# EAGLE library part LT3650-4.2 (library PowerProducts)
LT-Spice library generated with : ltspice.ulp from: D:/Program Files (x86)/LTC/LTspiceIV/lib/sym/PowerProducts/LT3652*.asy at 07.10.2012 16:23:18
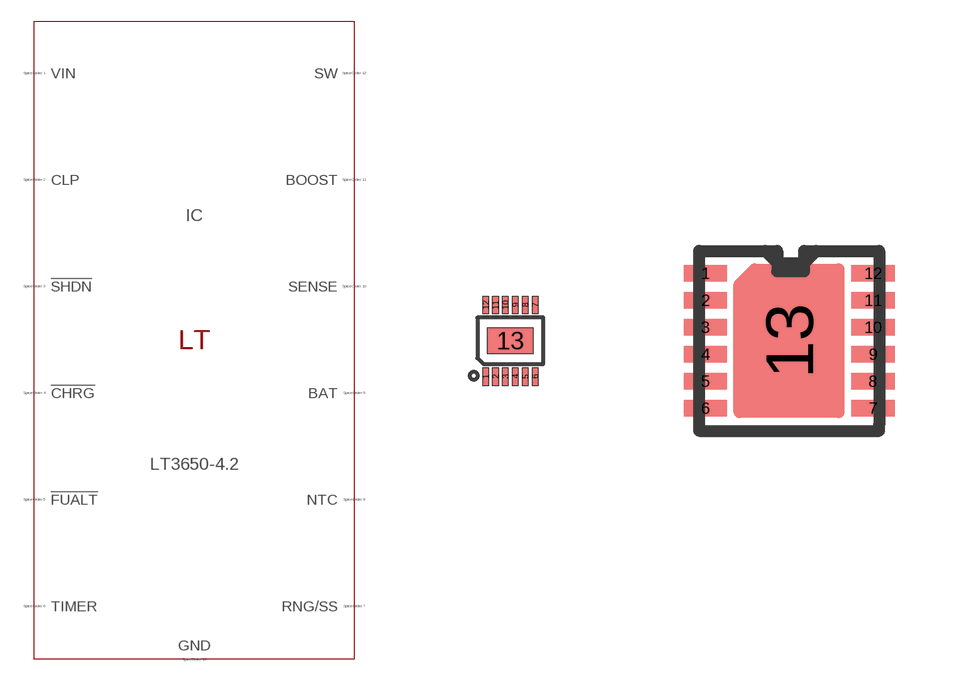
[diagram p82: symbol with the pads of MSOP12(MSE); footprints MSOP12(MSE), DFN12(DD)]

Designator prefix IC

## LT3650-4.2MSE (SPICEMODEL: LT3650-4.2.sub; SPICEPREFIX: X; VALUE2: LT3650-4.2)  [MSOP12(MSE)]
1  VIN  pas
2  CLP  pas
3  !SHDN  pas
4  !CHRG  pas
5  !FUALT  pas
6  TIMER  pas
7  RNG/SS  pas
8  NTC  pas
9  BAT  pas
10  SENSE  pas
11  BOOST  pas
12  SW  pas
13  GND  pas

## LT3650-4.2 (SPICEMODEL: LT3650-4.2.sub; SPICEPREFIX: X; VALUE2: LT3650-4.2)  [DFN12(DD)]
Pads as for MSOP12(MSE)

## Footprint MSOP12(MSE) (pad centres in mm)
Package generated from: MSOP12(MSE).asc (!PADS-POWERPCB-V9.3-BASIC! DESIGN DATABASE ASCII FILE 1.0) with :import-pads-powerpcb-v5.ulp Version 1.0.1 at 04.10.2012 14:11:19
smd 0.165 x 0.435: 1 -0.619,-0.895; 2 -0.372,-0.895; 3 -0.124,-0.895; 4 0.124,-0.895; 5 0.372,-0.895; 6 0.619,-0.895; 7 0.619,0.895; 8 0.372,0.895; 9 0.124,0.895; 10 -0.124,0.895; 11 -0.372,0.895; 12 -0.619,0.895
smd 1.161 x 0.629: 13 0,0

## Footprint DFN12(DD) (pad centres in mm)
Package generated from: DFN12(DD).asc (!PADS-POWERPCB-V9.3-BASIC! DESIGN DATABASE ASCII FILE 1.0) with :import-pads-powerpcb-v5.ulp Version 1.0.1 at 04.10.2012 14:11:16
smd 1.087 x 0.412: 1 -2.096,1.688; 2 -2.096,1.012; 3 -2.096,0.338; 4 -2.096,-0.338; 5 -2.096,-1.012; 6 -2.096,-1.688; 7 2.096,-1.688; 8 2.096,-1.012; 9 2.096,-0.338; 10 2.096,0.338; 11 2.096,1.012; 12 2.096,1.688
smd 2.475 x 2.7: 13 0,0